# EAGLE library part 429427520916 (library Eagle_Wuerth_Elektronik_Switch)
WS-RCT, 10*10mm Rotary Switch, right angle type, THT, 16 position, 5,08mm, 6 pins, round Cross type, dark grey, real code
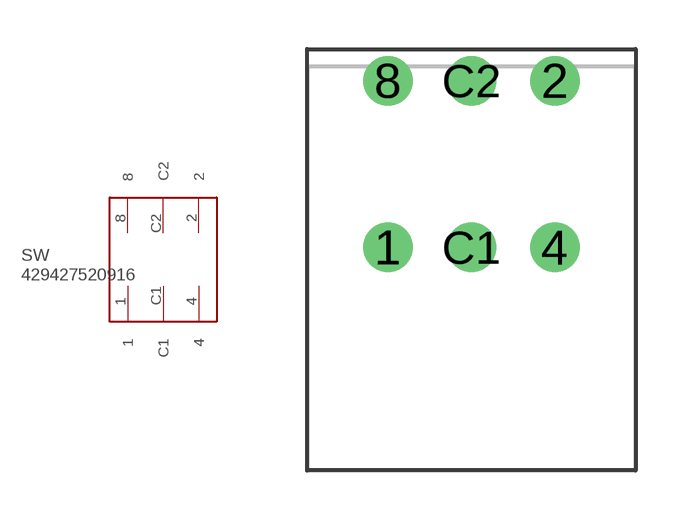
[diagram p164: symbol with the pads of 429427520916; footprint 429427520916]

Designator prefix SW

## 429427520916  [429427520916]
1  1
2  2
4  4
8  8
C1  C1
C2  C2

## Footprint 429427520916 (pad centres in mm)
WS-RCT, 10*10mm Rotary Switch, right angle type, THT, 16 position, 5,08mm, 6 pins, round Cross type, dark grey, real code
drill 1: 1 -2.54,-2.54; 2 2.54,2.54; 4 2.54,-2.54; 8 -2.54,2.54; C1 0,-2.54; C2 0,2.54